# Altium schematic symbol library RN41-I_RM.SchLib: 1 symbol
Pins are listed as number, name and electrical type; pins without a type are passive.

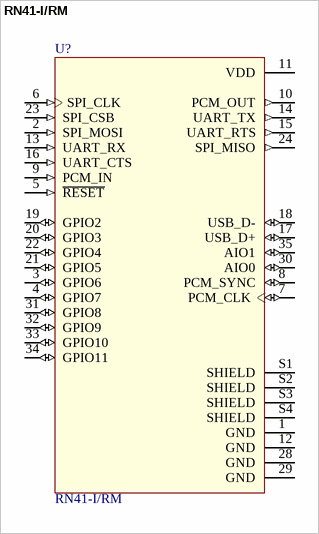
[diagram p0: symbol RN41-I/RM]

## RN41-I/RM
designator U?
RN-41 Series 100 Meter Range 3 Mbps Class 1 Bluetooth Module; MF: Microchip; Availability: Unavailable; Package: SMD-35 Microchip; SnapEDA_Link: https://www.snapeda.com/parts/RN41-I/RM/Microchip/view-part/?ref=snap; MP: RN41-I/RM; Price: None; Value: *
footprint XCVR_RN42-I/RM_RN41-I/RM(Primary)
pins: 1 GND (power), 2 SPI_MOSI (in), 3 GPIO6 (io), 4 GPIO7 (io), 5 ~{RESET} (in), 6 SPI_CLK (in), 7 PCM_CLK (io), 8 PCM_SYNC (io), 9 PCM_IN (in), 10 PCM_OUT (out), 11 VDD (power), 12 GND (power), 13 UART_RX (in), 14 UART_TX (out), 15 UART_RTS (out), 16 UART_CTS (in), 17 USB_D+ (io), 18 USB_D- (io), 19 GPIO2 (io), 20 GPIO3 (io), 21 GPIO5 (io), 22 GPIO4 (io), 23 SPI_CSB (in), 24 SPI_MISO (out), 28 GND (power), 29 GND (power), 30 AIO0 (io), 31 GPIO8 (io), 32 GPIO9 (io), 33 GPIO10 (io), 34 GPIO11 (io), 35 AIO1 (io), S1 SHIELD (power), S2 SHIELD (power), S3 SHIELD (power), S4 SHIELD (power)